# EAGLE library part TI_NATIONAL_SEMICONDUCTOR_LM20242MHE-NOPB (library NOPB)
PM-REG-LM20242
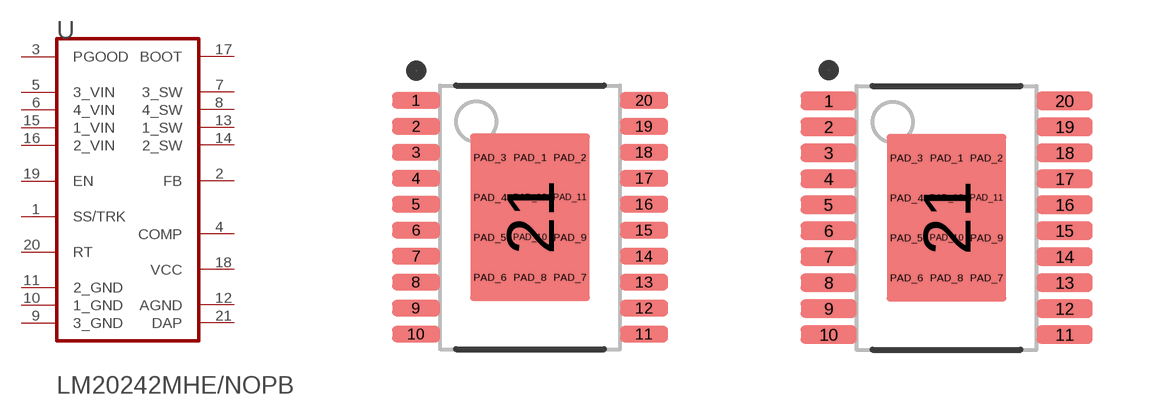
[diagram p0: symbol with the pads of TI_NATIONAL_SEMICONDUCTOR_LM20242MHE-NOPB_0; footprints TI_NATIONAL_SEMICONDUCTOR_LM20242MHE-NOPB_0, TI_NATIONAL_SEMICONDUCTOR_LM20242MHE-NOPB_1]

Designator prefix U

## TI_NATIONAL_SEMICONDUCTOR_LM20242MHE-NOPBTI_NATIONAL_SEMICONDUCTOR_LM20242MHE-NOPB_0_0 (CIIVA_IDS: 1490726; CODE__JEDEC: MO-153-ACT; COMPONENT_LINK_1_DESCRIPTION: Datasheet URL; COMPONENT_LINK_1_URL: http://www.ti.com/general/docs/lit/getliterature.tsp?genericPartNumber=LM20242&fileType=pdf; COMP_TYPE: Switcher; FOOTPRINT_VARIANT_NAME_0: Level C; FOOTPRINT_VARIANT_NAME_1: Level B; FOOTPRINT_VARIANT_NAME_2: Level A; IMPORTED: yes; IMPORTED_FROM: vault; IMPORT_TS: 1521854401; MF: TI National Semiconductor; MPN: LM20242MHE/NOPB; PACKAGE: PWP0020A; PACKAGE_DESCRIPTION: Molded TSSOP, Jedec, 6.5 x 4.4 x 0.9mm Body, 20 Lead, 0.65mm Pitch, Exposed Pad; PACKAGE_TOP_MARKING: NSUZXYTT*20242*MH; PIN_COUNT: 20; POWER_WISE: Y; PREFIX: U; RELEASE_DATE: 1464081014; ROHS: Yes; VAULT_GUID: 3837F751-FFDA-45D0-A972-9457BC8C977B; VAULT_REVISION: DB6983F7-91C3-4F88-8B29-BB9202A2DCF1)  [TI_NATIONAL_SEMICONDUCTOR_LM20242MHE-NOPB_0]
1  SS/TRK  pas
2  FB  in
3  PGOOD  oc
4  COMP  pas
5  3_VIN  pwr
6  4_VIN  pwr
7  3_SW  pwr
8  4_SW  pwr
9  3_GND  pwr
10  1_GND  pwr
11  2_GND  pwr
12  AGND  pwr
13  1_SW  pwr
14  2_SW  pwr
15  1_VIN  pwr
16  2_VIN  pwr
17  BOOT  pas
18  VCC  pwr
19  EN  pas
20  RT  in
21  DAP  pwr

## TI_NATIONAL_SEMICONDUCTOR_LM20242MHE-NOPBTI_NATIONAL_SEMICONDUCTOR_LM20242MHE-NOPB_0_1 (CIIVA_IDS: 1490726; CODE__JEDEC: MO-153-ACT; COMPONENT_LINK_1_DESCRIPTION: Datasheet URL; COMPONENT_LINK_1_URL: http://www.ti.com/general/docs/lit/getliterature.tsp?genericPartNumber=LM20242&fileType=pdf; COMP_TYPE: Switcher; FOOTPRINT_VARIANT_NAME_0: Level C; FOOTPRINT_VARIANT_NAME_1: Level B; FOOTPRINT_VARIANT_NAME_2: Level A; IMPORTED: yes; IMPORTED_FROM: vault; IMPORT_TS: 1521854401; MF: TI National Semiconductor; MPN: LM20242MHE/NOPB; PACKAGE: PWP0020A; PACKAGE_DESCRIPTION: Molded TSSOP, Jedec, 6.5 x 4.4 x 0.9mm Body, 20 Lead, 0.65mm Pitch, Exposed Pad; PACKAGE_TOP_MARKING: NSUZXYTT*20242*MH; PIN_COUNT: 20; POWER_WISE: Y; PREFIX: U; RELEASE_DATE: 1464081014; ROHS: Yes; VAULT_GUID: 3837F751-FFDA-45D0-A972-9457BC8C977B; VAULT_REVISION: DB6983F7-91C3-4F88-8B29-BB9202A2DCF1)  [TI_NATIONAL_SEMICONDUCTOR_LM20242MHE-NOPB_1]
Pads as for TI_NATIONAL_SEMICONDUCTOR_LM20242MHE-NOPB_0

## TI_NATIONAL_SEMICONDUCTOR_LM20242MHE-NOPBTI_NATIONAL_SEMICONDUCTOR_LM20242MHE-NOPB_0_2 (CIIVA_IDS: 1490726; CODE__JEDEC: MO-153-ACT; COMPONENT_LINK_1_DESCRIPTION: Datasheet URL; COMPONENT_LINK_1_URL: http://www.ti.com/general/docs/lit/getliterature.tsp?genericPartNumber=LM20242&fileType=pdf; COMP_TYPE: Switcher; FOOTPRINT_VARIANT_NAME_0: Level C; FOOTPRINT_VARIANT_NAME_1: Level B; FOOTPRINT_VARIANT_NAME_2: Level A; IMPORTED: yes; IMPORTED_FROM: vault; IMPORT_TS: 1521854401; MF: TI National Semiconductor; MPN: LM20242MHE/NOPB; PACKAGE: PWP0020A; PACKAGE_DESCRIPTION: Molded TSSOP, Jedec, 6.5 x 4.4 x 0.9mm Body, 20 Lead, 0.65mm Pitch, Exposed Pad; PACKAGE_TOP_MARKING: NSUZXYTT*20242*MH; PIN_COUNT: 20; POWER_WISE: Y; PREFIX: U; RELEASE_DATE: 1464081014; ROHS: Yes; VAULT_GUID: 3837F751-FFDA-45D0-A972-9457BC8C977B; VAULT_REVISION: DB6983F7-91C3-4F88-8B29-BB9202A2DCF1)  [TI_NATIONAL_SEMICONDUCTOR_LM20242MHE-NOPB_2]
Pads as for TI_NATIONAL_SEMICONDUCTOR_LM20242MHE-NOPB_0

## Footprint TI_NATIONAL_SEMICONDUCTOR_LM20242MHE-NOPB_0 (pad centres in mm)
PM-REG-LM20242
smd 1.2 x 0.4: 1 -2.85,2.925; 2 -2.85,2.275; 3 -2.85,1.625; 4 -2.85,0.975; 5 -2.85,0.325; 6 -2.85,-0.325; 7 -2.85,-0.975; 8 -2.85,-1.625; 9 -2.85,-2.275; 10 -2.85,-2.925; 11 2.85,-2.925; 12 2.85,-2.275; 13 2.85,-1.625; 14 2.85,-0.975; 15 2.85,-0.325; 16 2.85,0.325; 17 2.85,0.975; 18 2.85,1.625; 19 2.85,2.275; 20 2.85,2.925
smd 3 x 4.2: 21 0,0
drill 0.2 pad 0.5: PAD_1 0,1.5; PAD_2 1,1.5; PAD_3 -1,1.5; PAD_4 -1,0.5; PAD_5 -1,-0.5; PAD_6 -1,-1.5; PAD_7 1,-1.5; PAD_8 0,-1.5; PAD_9 1,-0.5; PAD_10 0,-0.5; PAD_11 1,0.5; PAD_12 0,0.5

## Footprint TI_NATIONAL_SEMICONDUCTOR_LM20242MHE-NOPB_1 (pad centres in mm)
PM-REG-LM20242
smd 1.4 x 0.45: 1 -2.95,2.925; 2 -2.95,2.275; 3 -2.95,1.625; 4 -2.95,0.975; 5 -2.95,0.325; 6 -2.95,-0.325; 7 -2.95,-0.975; 8 -2.95,-1.625; 9 -2.95,-2.275; 10 -2.95,-2.925; 11 2.95,-2.925; 12 2.95,-2.275; 13 2.95,-1.625; 14 2.95,-0.975; 15 2.95,-0.325; 16 2.95,0.325; 17 2.95,0.975; 18 2.95,1.625; 19 2.95,2.275; 20 2.95,2.925
smd 3 x 4.2: 21 0,0
drill 0.2 pad 0.5: PAD_1 0,1.5; PAD_2 1,1.5; PAD_3 -1,1.5; PAD_4 -1,0.5; PAD_5 -1,-0.5; PAD_6 -1,-1.5; PAD_7 1,-1.5; PAD_8 0,-1.5; PAD_9 1,-0.5; PAD_10 0,-0.5; PAD_11 1,0.5; PAD_12 0,0.5

## Footprint TI_NATIONAL_SEMICONDUCTOR_LM20242MHE-NOPB_2 (pad centres in mm)
PM-REG-LM20242
smd 1.6 x 0.45: 1 -3.05,2.925; 2 -3.05,2.275; 3 -3.05,1.625; 4 -3.05,0.975; 5 -3.05,0.325; 6 -3.05,-0.325; 7 -3.05,-0.975; 8 -3.05,-1.625; 9 -3.05,-2.275; 10 -3.05,-2.925; 11 3.05,-2.925; 12 3.05,-2.275; 13 3.05,-1.625; 14 3.05,-0.975; 15 3.05,-0.325; 16 3.05,0.325; 17 3.05,0.975; 18 3.05,1.625; 19 3.05,2.275; 20 3.05,2.925
smd 3 x 4.2: 21 0,0
drill 0.2 pad 0.5: PAD_1 0,1.5; PAD_2 1,1.5; PAD_3 -1,1.5; PAD_4 -1,0.5; PAD_5 -1,-0.5; PAD_6 -1,-1.5; PAD_7 1,-1.5; PAD_8 0,-1.5; PAD_9 1,-0.5; PAD_10 0,-0.5; PAD_11 1,0.5; PAD_12 0,0.5